# Altium schematic symbol library Misc Chip Component.SchLib: 4 symbols
Pins are listed as number, name and electrical type; pins without a type are passive.

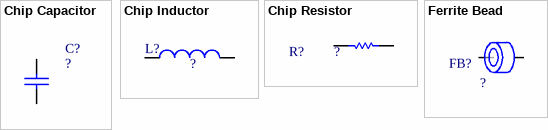
[diagram p0: symbols Chip Capacitor to Ferrite Bead]

## Chip Capacitor
designator C?, comment ?
Chip Capacitor; Revision: V1.0.0; Value: ?; Manufacturer: ?; Package: ?; PackageDescription: ?; PartNumber: ?; Supplier 1: Digi-Key; Supplier Part Number 1: ?; Publisher: Wentao SUN; Published: 16-Apr-2019
footprint CAPC1608L (Chip Capacitor, Body 1.6x0.8mm, IPC High Density)
footprint CAPC1005L (Chip Capacitor, Body 1.0x0.5mm, IPC High Density)
footprint CAPC2012L (Chip Capacitor, Body 2.0x1.3mm, IPC High Density)
footprint CAPC3216L (Chip Capacitor, Body 3.2x1.6mm, IPC High Density)
footprint CAPC1005M (Chip Capacitor, Body 1.0x0.5mm, IPC Low Density)
footprint CAPC1608M (Chip Capacitor, Body 1.6x0.8mm, IPC Low Density)
footprint CAPC2012M (Chip Capacitor, Body 2.0x1.3mm, IPC Low Density)
footprint CAPC3216M (Chip Capacitor, Body 3.2x1.6mm, IPC Low Density)
footprint CAPC1005N (Chip Capacitor, Body 1.0x0.5mm, IPC Medium Density)
footprint CAPC1608N (Chip Capacitor, Body 1.6x0.8mm, IPC Medium Density)
footprint CAPC2012N (Chip Capacitor, Body 2.0x1.3mm, IPC Medium Density)
footprint CAPC3216N (Chip Capacitor, Body 3.2x1.6mm, IPC Medium Density)
pins: 1, 2

## Chip Inductor
designator L?, comment ?
Chip Inductor; Published: 19-Apr-2019; Revision: V1.0.0; Publisher: Wentao SUN; Value: ?; Manufacturer: ?; Package: ?; PackageDescription: ?; PartNumber: ?; Supplier 1: Digi-Key; Supplier Part Number 1: ?
footprint INDC1005AL (Chip Inductor, Body 1.0x0.5mm, IPC High Density)
footprint INDC1005L (Chip Inductor, Body 1.0x0.5mm, IPC High Density)
footprint INDC1608AL (Chip Inductor, Body 1.6x0.8mm, IPC High Density)
footprint INDC1608L (Chip Inductor, Body 1.6x0.8mm, IPC High Density)
footprint INDC2012L (Chip Inductor, Body 2.0x1.2mm, IPC High Density)
footprint INDC3216L (Chip Inductor, Body 3.2x1.6mm, IPC High Density)
footprint INDC3216AL (Chip Inductor, Body 3.2x1.6mm, IPC High Density)
footprint INDC1005AM (Chip Inductor, Body 1.0x0.5mm, IPC Low Density)
footprint INDC1005M (Chip Inductor, Body 1.0x0.5mm, IPC Low Density)
footprint INDC1608AM (Chip Inductor, Body 1.6x0.8mm, IPC Low Density)
footprint INDC1608M (Chip Inductor, Body 1.6x0.8mm, IPC Low Density)
footprint INDC2012M (Chip Inductor, Body 2.0x1.2mm, IPC Low Density)
footprint INDC3216AM (Chip Inductor, Body 3.2x1.6mm, IPC Low Density)
footprint INDC3216M (Chip Inductor, Body 3.2x1.6mm, IPC Low Density)
footprint INDC1005AN (Chip Inductor, Body 1.0x0.5mm, IPC Medium Density)
footprint INDC1005N (Chip Inductor, Body 1.0x0.5mm, IPC Medium Density)
footprint INDC1608AN (Chip Inductor, Body 1.6x0.8mm, IPC Medium Density)
footprint INDC1608N (Chip Inductor, Body 1.6x0.8mm, IPC Medium Density)
footprint INDC2012N (Chip Inductor, Body 2.0x1.2mm, IPC Medium Density)
footprint INDC3216AN (Chip Inductor, Body 3.2x1.6mm, IPC Medium Density)
footprint INDC3216N (Chip Inductor, Body 3.2x1.6mm, IPC Medium Density)
pins: 1, 2

## Chip Resistor
designator R?, comment ?
Chip Resistor; Published: 16-Apr-2019; Revision: V1.0.0; Publisher: Wentao SUN; Manufacturer: ?; Package: ?; PackageDescription: ?; PartNumber: ?; Supplier 1: Digi-Key; Supplier Part Number 1: ?; Value: ?
footprint RESC1005L (Chip Resistor, Body 1.1x0.5mm, IPC High Density)
footprint RESC1608L (Chip Resistor, Body 1.6x0.8mm, IPC High Density)
footprint RESC2012L (Chip Resistor, Body 2.0x1.3mm, IPC High Density)
footprint RESC3216L (Chip Resistor, Body 3.2x1.6mm, IPC High Density)
footprint RESC1005M (Chip Resistor, Body 1.1x0.5mm, IPC Low Density)
footprint RESC1608M (Chip Resistor, Body 1.6x0.8mm, IPC Low Density)
footprint RESC2012M (Chip Resistor, Body 2.0x1.3mm, IPC Low Density)
footprint RESC3216M (Chip Resistor, Body 3.2x1.6mm, IPC Low Density)
footprint RESC1005N (Chip Resistor, Body 1.1x0.5mm, IPC Medium Density)
footprint RESC1608N (Chip Resistor, Body 1.6x0.8mm, IPC Medium Density)
footprint RESC2012N (Chip Resistor, Body 2.0x1.3mm, IPC Medium Density)
footprint RESC3216N (Chip Resistor, Body 3.2x1.6mm, IPC Medium Density)
pins: 1, 2
1 alternate drawing of the same symbol

## Ferrite Bead
designator FB?, comment ?
Ferrite Bead; Published: 16-Apr-2019; Revision: V1.0.0; Publisher: Wentao SUN; Manufacturer: ?; Package: ?; PackageDescription: ?; PartNumber: ?; Supplier 1: Digi-Key; Supplier Part Number 1: ?
footprint FBC1005L (Chip Ferrite Bead Body 1.1x0.5mm, IPC High Density)
footprint FBC1608L (Chip Ferrite Bead, Body 1.6x0.8mm, IPC High Density)
footprint FBC2012L (Chip Ferrite Bead, Body 2.0x1.3mm, IPC High Density)
footprint FBC3216L (Chip Ferrite Bead, Body 3.2x1.6mm, IPC High Density)
footprint FBC1005M (Chip Ferrite Bead, Body 1.1x0.5mm, IPC Low Density)
footprint FBC1608M (Chip Ferrite Bead, Body 1.6x0.8mm, IPC Low Density)
footprint FBC2012M (Chip Ferrite Bead, Body 2.0x1.3mm, IPC Low Density)
footprint FBC3216M (Chip Ferrite Bead, Body 3.2x1.6mm, IPC Low Density)
footprint FBC1005N (Chip Ferrite Bead, Body 1.1x0.5mm, IPC Medium Density)
footprint FBC1608N (Chip Ferrite Bead, Body 1.6x0.8mm, IPC Medium Density)
footprint FBC2012N (Chip Ferrite Bead, Body 2.0x1.3mm, IPC Medium Density)
footprint FBC3216N (Chip Ferrite Bead, Body 3.2x1.6mm, IPC Medium Density)
pins: 1, 2